# EAGLE library part 74HC4052D,653 (library SamacSys_Parts)
74HC(T)4052 - Dual 4-channel analog multiplexer/demultiplexer@en-us Source: Datasheet <https://assets.nexperia.com/documents/data-sheet/74HC_HCT4052.pdf>
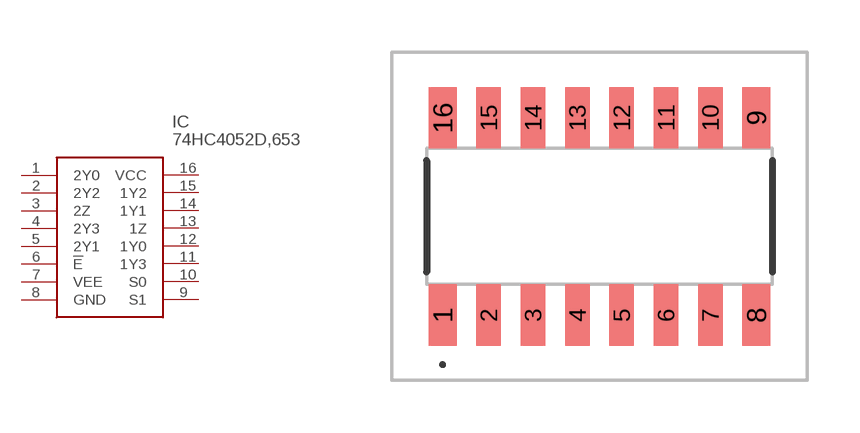
[diagram p116: symbol with the pads of 74HC4052D653; footprint 74HC4052D653]

Designator prefix IC

## 74HC4052D,653 (DESCRIPTION: 74HC(T)4052 - Dual 4-channel analog multiplexer/demultiplexer@en-us; HEIGHT: 1.75mm; MANUFACTURER_NAME: Nexperia; MANUFACTURER_PART_NUMBER: 74HC4052D,653; MOUSER_PART_NUMBER: 771-74HC4052D-T; MOUSER_PRICE-STOCK: https://www.mouser.co.uk/ProductDetail/Nexperia/74HC4052D653?qs=P62ublwmbi9dOtwH%252Bhrppg%3D%3D)  [74HC4052D653]
1  2Y0
2  2Y2
3  2Z
4  2Y3
5  2Y1
6  !E
7  VEE
8  GND
9  S1
10  S0
11  1Y3
12  1Y0
13  1Z
14  1Y1
15  1Y2
16  VCC

## Footprint 74HC4052D653 (pad centres in mm)
74HC4052D,653-2
smd 0.8 x 1.75: 1 -4.495,-2.825; 8 4.495,-2.825; 9 4.495,2.825; 16 -4.495,2.825
smd 0.7 x 1.75: 2 -3.175,-2.825; 3 -1.905,-2.825; 4 -0.635,-2.825; 5 0.635,-2.825; 6 1.905,-2.825; 7 3.175,-2.825; 10 3.175,2.825; 11 1.905,2.825; 12 0.635,2.825; 13 -0.635,2.825; 14 -1.905,2.825; 15 -3.175,2.825